# EAGLE library part FE08-1 (library school_shield)
FEMALE HEADER
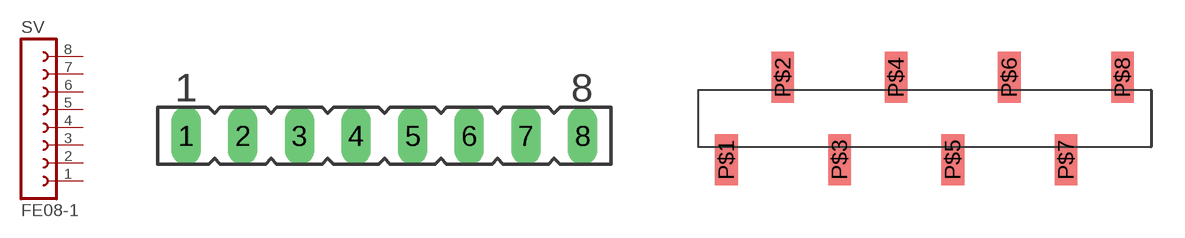
[diagram p1: symbol with the pads of FE08; footprints FE08, FE08_SMD]

Designator prefix SV

## FE08-1PTH (OC_FARNELL: unknown; OC_NEWARK: unknown)  [FE08]
1  1  pas
2  2  pas
3  3  pas
4  4  pas
5  5  pas
6  6  pas
7  7  pas
8  8  pas

## FE08-1SMD  [FE08_SMD]
P$1  1  pas
P$2  2  pas
P$3  3  pas
P$4  4  pas
P$5  5  pas
P$6  6  pas
P$7  7  pas
P$8  8  pas

## Footprint FE08 (pad centres in mm)
FEMALE HEADER
drill 0.813 long: 1 -8.89,0; 2 -6.35,0; 3 -3.81,0; 4 -1.27,0; 5 1.27,0; 6 3.81,0; 7 6.35,0; 8 8.89,0

## Footprint FE08_SMD (pad centres in mm)
smd 1.016 x 2.285: P$1 -8.894,-1.845; P$2 -6.361,1.843; P$3 -3.814,-1.845; P$4 -1.281,1.843; P$5 1.266,-1.845; P$6 3.799,1.843; P$7 6.346,-1.845; P$8 8.879,1.843